# Altium footprint library Vishay Sprague Footprints.PcbLib: 143 footprints (part 4 of 9)
Each footprint in its own frame and in the unit in brackets; x right, y up, seen from the top. Pads: shape width x height; smd on the part's side, far side on the other; paste and mask are expansions set on the pad; w line width, h text height; cw(c..) or ccw(c..) is an arc to the next point about the centre after c.
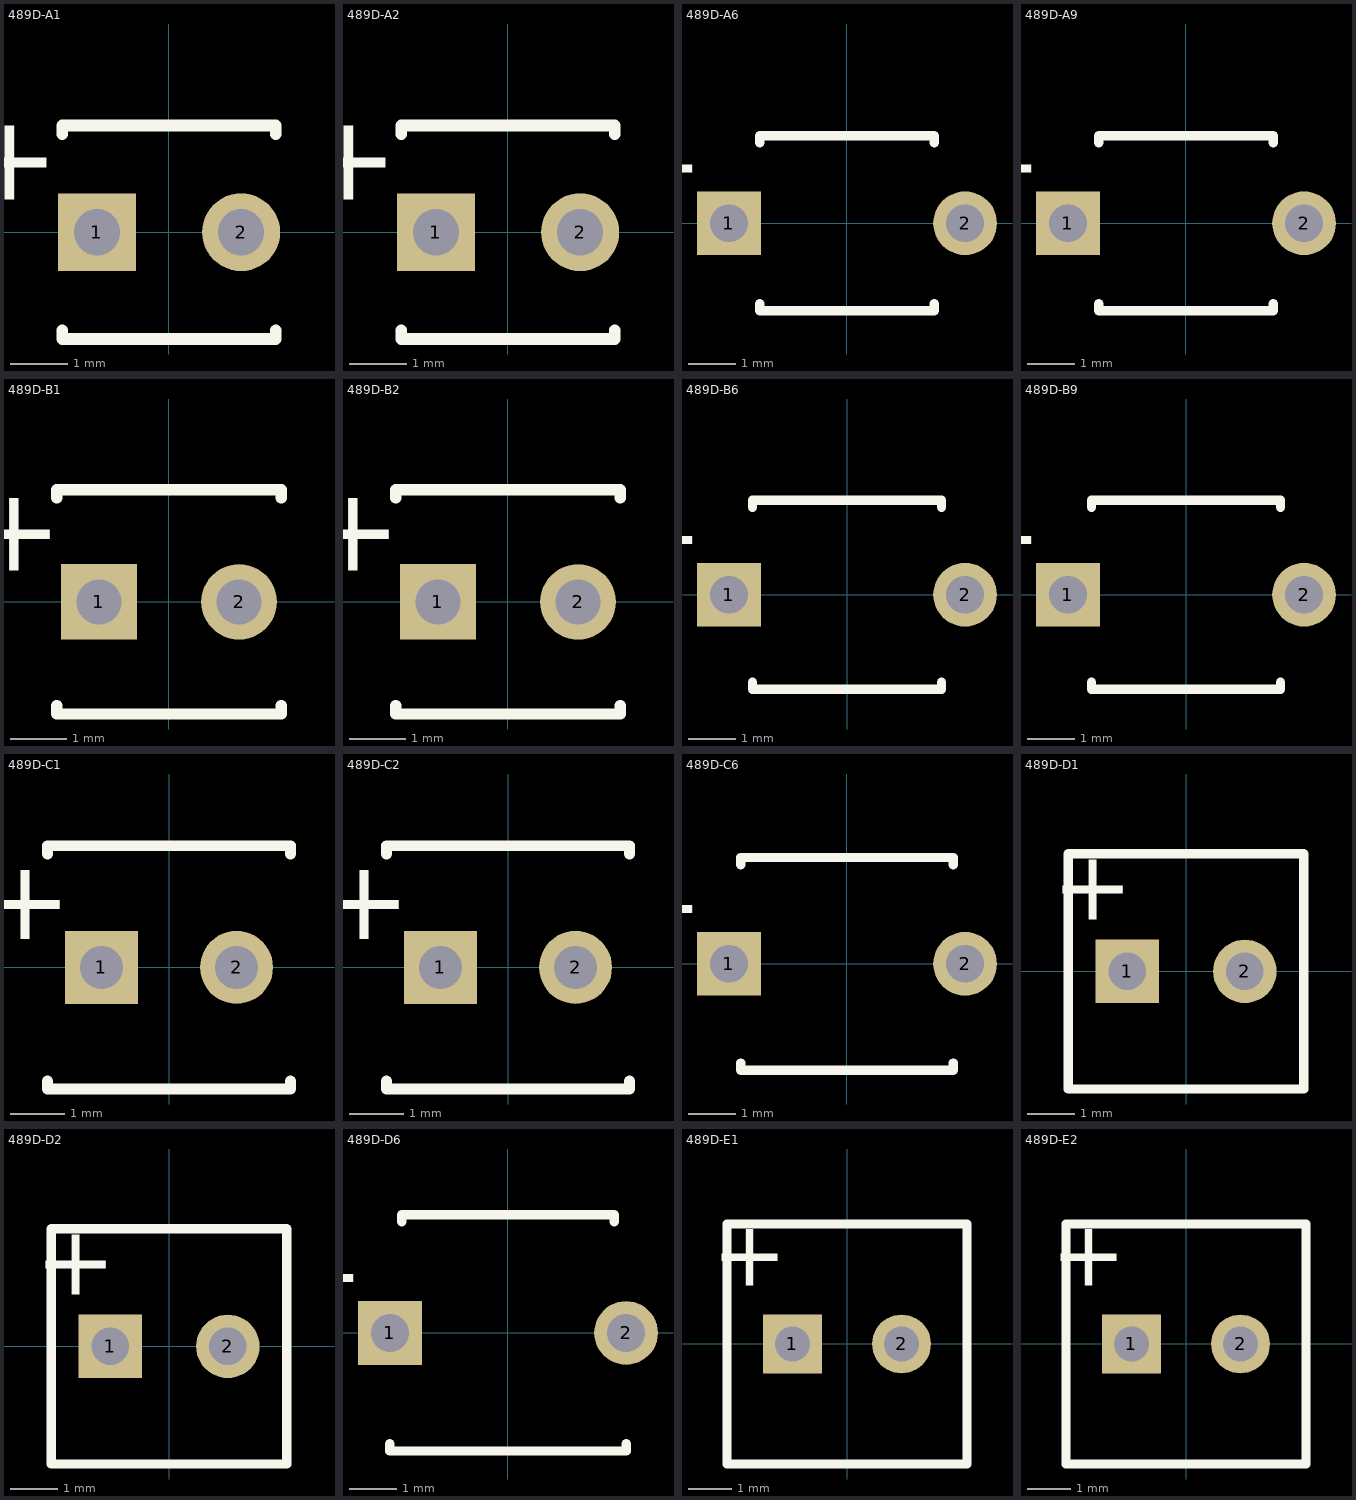
[diagram p3: the footprints below, top view; thin cyan lines are the x and y axes]

## 489D-A1 [mm] "Capacitor, Tantalum Bead; Body 3.7 x 7 mm (Dia.xH max); Pin Spacing 2.5 mm (typ)"
height 7
pads (2):
  rect 1.35x1.35 hole 0.8: 1(-1.249,0.001)
  round 1.35 hole 0.8: 2(1.251,0.001)
Top Overlay:
  lines w0.2: -1.849,-1.699 -1.849,-1.849 1.851,-1.849 1.851,-1.699 ; -1.849,1.701 -1.849,1.851 1.851,1.851 1.851,1.701
  text "+" at -1.9,1.85 h1.5

## 489D-A2 [mm] "Capacitor, Tantalum Bead; Body 3.7 x 7 mm (Dia.xH max); Pin Spacing 2.5 mm (typ)"
height 7
pads (2):
  rect 1.35x1.35 hole 0.8: 1(-1.249,0.001)
  round 1.35 hole 0.8: 2(1.251,0.001)
Top Overlay:
  lines w0.2: -1.849,-1.699 -1.849,-1.849 1.851,-1.849 1.851,-1.699 ; -1.849,1.701 -1.849,1.851 1.851,1.851 1.851,1.701
  text "+" at -1.9,1.85 h1.5

## 489D-A6 [mm] "Capacitor, Tantalum Bead; Body 3.7 x 9.5 mm (Dia.xH max); Pin Spacing 5.0 mm (typ)"
height 9.5
pads (2):
  rect 1.35x1.35 hole 0.8: 1(-2.5,0)
  round 1.35 hole 0.8: 2(2.5,0)
Top Overlay:
  lines w0.2: -1.85,-1.7 -1.85,-1.85 1.85,-1.85 1.85,-1.7 ; -1.85,1.7 -1.85,1.85 1.85,1.85 1.85,1.7
  text "+" at -3.05,1.8 h1.5

## 489D-A9 [mm] "Capacitor, Tantalum Bead; Body 3.7 x 10 mm (Dia.xH max); Pin Spacing 5.0 mm (typ)"
height 10
pads (2):
  rect 1.35x1.35 hole 0.8: 1(-2.5,0)
  round 1.35 hole 0.8: 2(2.5,0)
Top Overlay:
  lines w0.2: -1.85,-1.7 -1.85,-1.85 1.85,-1.85 1.85,-1.7 ; -1.85,1.7 -1.85,1.85 1.85,1.85 1.85,1.7
  text "+" at -3.05,1.8 h1.5

## 489D-B1 [mm] "Capacitor, Tantalum Bead; Body 4 x 7.5 mm (Dia.xH max); Pin Spacing 2.5 mm (typ)"
height 7.5
pads (2):
  rect 1.35x1.35 hole 0.8: 1(-1.25,0)
  round 1.35 hole 0.8: 2(1.25,0)
Top Overlay:
  lines w0.2: -2,-1.85 -2,-2 2,-2 2,-1.85 ; -2,1.85 -2,2 2,2 2,1.85
  text "+" at -1.9,1.85 h1.5

## 489D-B2 [mm] "Capacitor, Tantalum Bead; Body 4 x 7.5 mm (Dia.xH max); Pin Spacing 2.5 mm (typ)"
height 7.5
pads (2):
  rect 1.35x1.35 hole 0.8: 1(-1.25,0)
  round 1.35 hole 0.8: 2(1.25,0)
Top Overlay:
  lines w0.2: -2,-1.85 -2,-2 2,-2 2,-1.85 ; -2,1.85 -2,2 2,2 2,1.85
  text "+" at -1.9,1.85 h1.5

## 489D-B6 [mm] "Capacitor, Tantalum Bead; Body 4 x 10 mm (Dia.xH max); Pin Spacing 5.0 mm (typ)"
height 10
pads (2):
  rect 1.35x1.35 hole 0.8: 1(-2.5,0)
  round 1.35 hole 0.8: 2(2.5,0)
Top Overlay:
  lines w0.2: -2,-1.85 -2,-2 2,-2 2,-1.85 ; -2,1.85 -2,2 2,2 2,1.85
  text "+" at -3.05,1.8 h1.5

## 489D-B9 [mm] "Capacitor, Tantalum Bead; Body 4 x 10.5 mm (Dia.xH max); Pin Spacing 5.0 mm (typ)"
height 10.5
pads (2):
  rect 1.35x1.35 hole 0.8: 1(-2.5,0)
  round 1.35 hole 0.8: 2(2.5,0)
Top Overlay:
  lines w0.2: -2,-1.85 -2,-2 2,-2 2,-1.85 ; -2,1.85 -2,2 2,2 2,1.85
  text "+" at -3.05,1.8 h1.5

## 489D-C1 [mm] "Capacitor, Tantalum Bead; Body 4.5 x 8 mm (Dia.xH max); Pin Spacing 2.5 mm (typ)"
height 8
pads (2):
  rect 1.35x1.35 hole 0.8: 1(-1.25,0)
  round 1.35 hole 0.8: 2(1.25,0)
Top Overlay:
  lines w0.2: -2.25,-2.1 -2.25,-2.25 2.25,-2.25 2.25,-2.1 ; -2.25,2.1 -2.25,2.25 2.25,2.25 2.25,2.1
  text "+" at -1.8,1.8 h1.5

## 489D-C2 [mm] "Capacitor, Tantalum Bead; Body 4.5 x 8 mm (Dia.xH max); Pin Spacing 2.5 mm (typ)"
height 8
pads (2):
  rect 1.35x1.35 hole 0.8: 1(-1.25,0)
  round 1.35 hole 0.8: 2(1.25,0)
Top Overlay:
  lines w0.2: -2.25,-2.1 -2.25,-2.25 2.25,-2.25 2.25,-2.1 ; -2.25,2.1 -2.25,2.25 2.25,2.25 2.25,2.1
  text "+" at -1.8,1.8 h1.5

## 489D-C6 [mm] "Capacitor, Tantalum Bead; Body 4.5 x 10.5 mm (Dia.xH max); Pin Spacing 5.0 mm (typ)"
height 10.5
pads (2):
  rect 1.35x1.35 hole 0.8: 1(-2.5,0)
  round 1.35 hole 0.8: 2(2.5,0)
Top Overlay:
  lines w0.2: -2.25,-2.1 -2.25,-2.25 2.25,-2.25 2.25,-2.1 ; -2.25,2.1 -2.25,2.25 2.25,2.25 2.25,2.1
  text "+" at -3.05,1.8 h1.5

## 489D-D1 [mm] "Capacitor, Tantalum Bead; Body 5 x 9 mm (Dia.xH max); Pin Spacing 2.5 mm (typ)"
height 9
pads (2):
  rect 1.35x1.35 hole 0.8: 1(-1.25,0)
  round 1.35 hole 0.8: 2(1.25,0)
Top Overlay:
  lines w0.2: -2.5,2.5 2.5,2.5 2.5,-2.5 -2.5,-2.5 -2.5,2.5
  text "+" at -1.126,2.375 h1.5

## 489D-D2 [mm] "Capacitor, Tantalum Bead; Body 5 x 9 mm (Dia.xH max); Pin Spacing 2.5 mm (typ)"
height 9
pads (2):
  rect 1.35x1.35 hole 0.8: 1(-1.25,0)
  round 1.35 hole 0.8: 2(1.25,0)
Top Overlay:
  lines w0.2: -2.5,2.5 2.5,2.5 2.5,-2.5 -2.5,-2.5 -2.5,2.5
  text "+" at -1.126,2.375 h1.5

## 489D-D6 [mm] "Capacitor, Tantalum Bead; Body 5 x 11.5 mm (Dia.xH max); Pin Spacing 5.0 mm (typ)"
height 11.5
pads (2):
  rect 1.35x1.35 hole 0.8: 1(-2.5,0)
  round 1.35 hole 0.8: 2(2.5,0)
Top Overlay:
  lines w0.2: -2.5,-2.35 -2.5,-2.5 2.5,-2.5 2.5,-2.35 ; -2.25,2.35 -2.25,2.5 2.25,2.5 2.25,2.35
  text "+" at -3.05,1.8 h1.5

## 489D-E1 [mm] "Capacitor, Tantalum Bead; Body 5.5 x 10 mm (Dia.xH max); Pin Spacing 2.5 mm (typ)"
height 10
pads (2):
  rect 1.35x1.35 hole 0.8: 1(-1.25,0)
  round 1.35 hole 0.8: 2(1.25,0)
Top Overlay:
  lines w0.2: -2.75,-2.75 -2.75,2.75 2.75,2.75 2.75,-2.75 -2.75,-2.75
  text "+" at -1.375,2.625 h1.5

## 489D-E2 [mm] "Capacitor, Tantalum Bead; Body 5.5 x 10 mm (Dia.xH max); Pin Spacing 2.5 mm (typ)"
height 10
pads (2):
  rect 1.35x1.35 hole 0.8: 1(-1.25,0)
  round 1.35 hole 0.8: 2(1.25,0)
Top Overlay:
  lines w0.2: -2.75,-2.75 -2.75,2.75 2.75,2.75 2.75,-2.75 -2.75,-2.75
  text "+" at -1.375,2.625 h1.5